# Altium schematic symbol library General Components.SchLib: 28 symbols
Pins are listed as number, name and electrical type; pins without a type are passive.

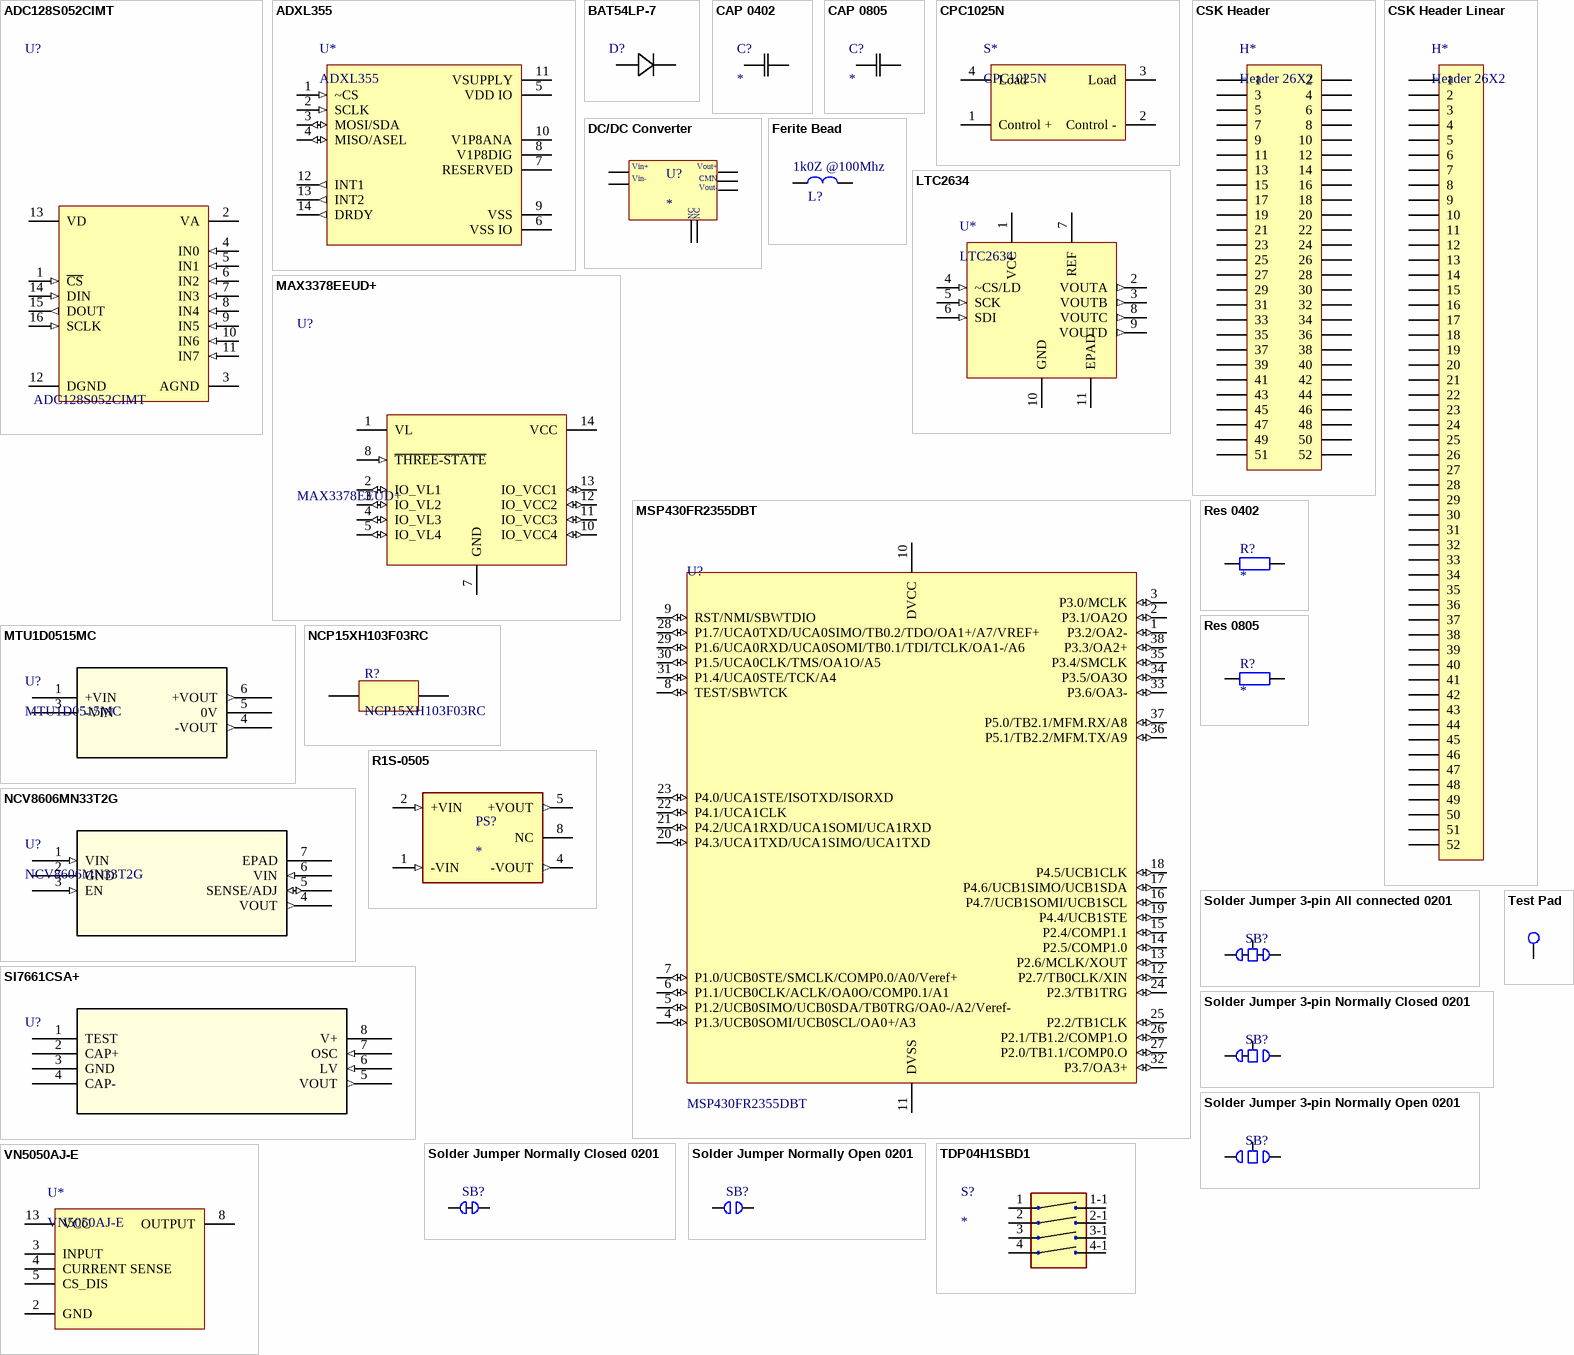
[diagram p0: symbols ADC128S052CIMT to VN5050AJ-E]

## ADC128S052CIMT
designator U?
8-Channel 12-Bit ADC; MF: Texas Instruments; MP: ADC128S052CIMT/NOPB; Package: TSSOP-16 Texas Instruments; Availability: Unavailable; SnapEDA_Link: https://www.snapeda.com/parts/ADC128S052CIMT/NOPB/Texas%20Instruments/view-part/?ref=snap; Price: None; Value: *
footprint *SOP65P640X110-16N
pins: 1 ~{CS} (in), 2 VA (power), 3 AGND, 4 IN0 (in), 5 IN1 (in), 6 IN2 (in), 7 IN3 (in), 8 IN4 (in), 9 IN5 (in), 10 IN6 (in), 11 IN7 (in), 12 DGND, 13 VD (power), 14 DIN (in), 15 DOUT (out), 16 SCLK (in)

## ADXL355
designator U*
Accelerometer
pins: 1 ~CS (in), 2 SCLK (in), 3 MOSI/SDA (io), 4 MISO/ASEL (io), 5 VDD IO (power), 6 VSS IO (power), 7 RESERVED, 8 V1P8DIG, 9 VSS (power), 10 V1P8ANA, 11 VSUPPLY (power), 12 INT1 (out), 13 INT2 (out), 14 DRDY (out)

## BAT54LP-7
designator D?  (value not drawn)
BAT54LPDICT-ND; Vendor: Diodes Inc; Built_By: EMA_Anthony; SourceLibrary: Diodes_Inc_2020-03-05; Type: DEV; Datasheet: https://www.diodes.com/assets/Datasheets/ds30504.pdf; Copyright: Copyright (C) 2018 Accelerated Designs. All rights reserved; Manufacturer_Part_Number: BAT54LP-7; RefDes: RefDes
footprint BAT54 0402
pins: 1, 2

## CAP 0402
designator C?
No Description Available
footprint CAP 0402
pins: 1 11, 2 12

## CAP 0805
designator C?
No Description Available; Value: *
footprint CAPC2012X94N
pins: 1 11, 2 12

## CPC1025N
designator S*
Solid State Switch
pins: 1 Control +, 2 Control -, 3 Load, 4 Load

## CSK Header
designator H*, comment Header 26X2
PCI/104 Bus
pins: 1, 2, 3, 4, 5, 6, 7, 8, 9, 10, 11, 12, 13, 14, 15, 16, 17, 18, 19, 20, 21, 22, 23, 24, 25, 26, 27, 28, 29, 30, 31, 32, 33, 34, 35, 36, 37, 38, 39, 40, 41, 42, 43, 44, 45, 46, 47, 48, 49, 50, 51, 52

## CSK Header Linear
designator H*, comment Header 26X2
PCI/104 Bus
pins: 1, 2, 3, 4, 5, 6, 7, 8, 9, 10, 11, 12, 13, 14, 15, 16, 17, 18, 19, 20, 21, 22, 23, 24, 25, 26, 27, 28, 29, 30, 31, 32, 33, 34, 35, 36, 37, 38, 39, 40, 41, 42, 43, 44, 45, 46, 47, 48, 49, 50, 51, 52

## DC/DC Converter
designator U?
footprint DC/DC converter
pins: 1, 2, 3, 4, 5, 6, 7
text: Vin+; Vout+; Vin-; CMN; Vout-; NC

## Ferite Bead
designator L?, comment 1k0Z @100Mhz
Ferite Bead; Part Number: WDTL03462; Manufacturer: TDK; Manufacturer PN: MPZ2012S102AT000; SMT/TH: SMT; Tmax: 125; UL Critical: False; Value: 1k0Z @100Mhz; Package Name: 0805; Part Type: Inductor; Part Sub Type: Ferite Bead; ComponentLink2Description: Datasheet; ComponentLink2URL: O:\Elec_Parts\Datasheets\TDK MPZ2012S102AT000 Ferrite Bead.pdf
footprint 0805
pins: 1, 2

## LTC2634
designator U*
4 Channel DAC
pins: 1 VCC (power), 2 VOUTA (out), 3 VOUTB (out), 4 ~CS/LD (in), 5 SCK (in), 6 SDI (in), 7 REF, 8 VOUTC (out), 9 VOUTD (out), 10 GND (power), 11 EPAD (power)

## MAX3378EEUD+
designator U?
Bi-Dir Voltage Level Translator; MF: Maxim Integrated; Price: None; MP: MAX3378EEUD+; SnapEDA_Link: https://www.snapeda.com/parts/MAX3378EEUD%2B/Maxim%20Integrated/view-part/?ref=search&t=MAX3378EEUD; Package: TSSOP-14 Maxim Integrated; Availability: Unavailable; Value: *
footprint *SOP65P640X110-14N
pins: 1 VL (power), 2 IO_VL1 (io), 3 IO_VL2 (io), 4 IO_VL3 (io), 5 IO_VL4 (io), 7 GND (power), 8 ~{THREE-STATE} (in), 10 IO_VCC4 (io), 11 IO_VCC3 (io), 12 IO_VCC2 (io), 13 IO_VCC1 (io), 14 VCC (power)

## MSP430FR2355DBT
designator U?
MSP430 Microcontroller; MF: Texas Instruments; MP: MSP430FR2355TPT; Price: None; SnapEDA_Link: https://www.snapeda.com/parts/MSP430FR2355TPT/Texas%20Instruments/view-part/?ref=snap; Package: LQFP-48 Texas Instruments; Availability: Unavailable; Value: *
pins: 1 P3.2/OA2- (io), 2 P3.1/OA2O (io), 3 P3.0/MCLK (io), 4 P1.3/UCB0SOMI/UCB0SCL/OA0+/A3 (io), 5 P1.2/UCB0SIMO/UCB0SDA/TB0TRG/OA0-/A2/Veref- (io), 6 P1.1/UCB0CLK/ACLK/OA0O/COMP0.1/A1 (io), 7 P1.0/UCB0STE/SMCLK/COMP0.0/A0/Veref+ (io), 8 TEST/SBWTCK (io), 9 RST/NMI/SBWTDIO (io), 10 DVCC (power), 11 DVSS (power), 12 P2.7/TB0CLK/XIN (io), 13 P2.6/MCLK/XOUT (io), 14 P2.5/COMP1.0 (io), 15 P2.4/COMP1.1 (io), 16 P4.7/UCB1SOMI/UCB1SCL (io), 17 P4.6/UCB1SIMO/UCB1SDA (io), 18 P4.5/UCB1CLK (io), 19 P4.4/UCB1STE (io), 20 P4.3/UCA1TXD/UCA1SIMO/UCA1TXD (io), 21 P4.2/UCA1RXD/UCA1SOMI/UCA1RXD (io), 22 P4.1/UCA1CLK (io), 23 P4.0/UCA1STE/ISOTXD/ISORXD (io), 24 P2.3/TB1TRG (io), 25 P2.2/TB1CLK (io), 26 P2.1/TB1.2/COMP1.O (io), 27 P2.0/TB1.1/COMP0.O (io), 28 P1.7/UCA0TXD/UCA0SIMO/TB0.2/TDO/OA1+/A7/VREF+ (io), 29 P1.6/UCA0RXD/UCA0SOMI/TB0.1/TDI/TCLK/OA1-/A6 (io), 30 P1.5/UCA0CLK/TMS/OA1O/A5 (io), 31 P1.4/UCA0STE/TCK/A4 (io), 32 P3.7/OA3+ (io), 33 P3.6/OA3- (io), 34 P3.5/OA3O (io), 35 P3.4/SMCLK (io), 36 P5.1/TB2.2/MFM.TX/A9 (io), 37 P5.0/TB2.1/MFM.RX/A8 (io), 38 P3.3/OA2+ (io)

## MTU1D0515MC
designator U?
No Description Available; Vendor: Murata; Built_By: EMA_Cory; SourceLibrary: Murata_2020-07-28; Datasheet: https://www.murata.com/products/productdata/8807030456350/kdc-mtu1.pdf?1583754812000; Manufacturer_Part_Number: MTU1D0515MC; Copyright: Copyright (C) 2018 Accelerated Designs. All rights reserved; RefDes: RefDes; Type: DEV
footprint MTU1_MUR
pins: 1 +VIN (power), 3 -VIN (power), 4 -VOUT (out), 5 0V, 6 +VOUT (out)

## NCP15XH103F03RC
designator R?
Thermistor NTC 10K; MF: Murata; Package: 0402 Murata; Digi-Key_Part_Number: 490-4801-1-ND; Digi-Key_Purchase_URL: https://www.digikey.co.nz/product-detail/en/murata-electronics-north-america/NCP15XH103F03RC/490-4801-1-ND/1644682?utm_source=snapeda&utm_medium=aggregator&utm_campaign=symbol; MP: NCP15XH103F03RC; SnapEDA_Link: https://www.snapeda.com/parts/NCP15XH103F03RC/Murata%20Electronics%20North%20America/view-part/?ref=snap; Value: *
footprint *CAPC1005X55N
pins: 1, 2

## NCV8606MN33T2G
designator U?
No Description Available; SourceLibrary: ON_Semiconductor_2018-03-21; Built_By: EMA_Jessica; Vendor: ON Semiconductor; Copyright: Copyright (C) 2016 Accelerated Designs. All rights reserved; Manufacturer_Part_Number: NCV8606MN33T2G; RefDes: RefDes; Type: DEV
footprint DFN6_3X3P3_ONS
pins: 1 VIN (in), 2 GND (power), 3 EN (in), 4 VOUT (out), 5 SENSE/ADJ (io), 6 VIN (in), 7 EPAD

## R1S-0505
designator PS?
1 Watt SMD Single & Dual Output; MP: R1S-0505; Package: None; Price: None; Value: *; Availability: Unavailable
footprint CONV_R1S-0505
pins: 1 -VIN (in), 2 +VIN (in), 4 -VOUT (out), 5 +VOUT (out), 8 NC

## Res 0402
designator R?
Resistor; Value: *
footprint RES 0402
pins: 1, 2

## Res 0805
designator R?
Resistor; Value: *
footprint 0805
pins: 1, 2

## SI7661CSA+
designator U?  (value not drawn)
Mouser: 700-SI7661ESA; Vendor: Maxim Integrated Products; Built_By: EMA_UL_Team; SourceLibrary: Maxim_2011-05-13; Manufacturer_Part_Number: SI7661CSA+; Revision: 3; Copyright: Copyright (C) 2018 Accelerated Designs. All rights reserved; RefDes: RefDes; Type: DEV
footprint si7661
pins: 1 TEST, 2 CAP+, 3 GND (power), 4 CAP-, 5 VOUT (out), 6 LV (in), 7 OSC (in), 8 V+ (power)

## Solder Jumper 3-pin All connected 0201
designator SB?  (value not drawn)  (net tie, no BOM)
DEBUG: DEBUG
footprint Solder Bridge 3-pin All Shorted 0201
pins: 1 Common, 2, 3

## Solder Jumper 3-pin Normally Closed 0201
designator SB?  (value not drawn)  (net tie, no BOM)
DEBUG: DEBUG
footprint Solder Bridge 3-pin Left shorted 0201
pins: 1 Common, 2, 3

## Solder Jumper 3-pin Normally Open 0201
designator SB?  (value not drawn)  (no BOM)
DEBUG: DEBUG
footprint Solder Bridge 3-pin Open 0201
pins: 1 Common, 2, 3

## Solder Jumper Normally Closed 0201
designator SB?  (net tie, no BOM)
DEBUG: DEBUG
footprint Solder Bridge Closed 0201
pins: 1, 2

## Solder Jumper Normally Open 0201
designator SB?  (value not drawn)  (no BOM)
DEBUG: DEBUG
footprint Solder Bridge Open 0201
pins: 1, 2

## TDP04H1SBD1
designator S?
Switch; Manufacturer_Name: C & K COMPONENTS; Manufacturer_Part_Number: TDP04H1SBD1; Datasheet Link: https://www.ckswitches.com/media/1330/tdp.pdf; Height: 4.4mm; Mouser Part Number: 611-TDP04H1SBD1; Mouser Price/Stock: https://www.mouser.co.uk/ProductDetail/CK/TDP04H1SBD1?qs=LUL%252B3%2F1oFk7o6Dk5%252BAVXHw%3D%3D; Arrow Part Number: TDP04H1SBD1; Arrow Price/Stock: https://www.arrow.com/en/products/tdp04h1sbd1/ck?region=nac
footprint TDP04H1SBD1
pins: 1, 2, 3, 4, 5 4-1, 6 3-1, 7 2-1, 8 1-1

## Test Pad
designator T*  (value not drawn)  (no BOM)
footprint Test Pad (Exposed copper pad)
pins: 1 0

## VN5050AJ-E
designator U*
High-Side Driver
pins: 1 hidden, 2 GND, 3 INPUT, 4 CURRENT SENSE, 5 CS_DIS, 6 hidden, 7 hidden, 8 OUTPUT (power), 9 (power) hidden to OUTPUT, 10 (power) hidden to OUTPUT, 11 (power) hidden to OUTPUT, 12 (power) hidden to OUTPUT, 13 VCC (power)